# EAGLE library part BROOK_2X10_FEMALE (library milador)
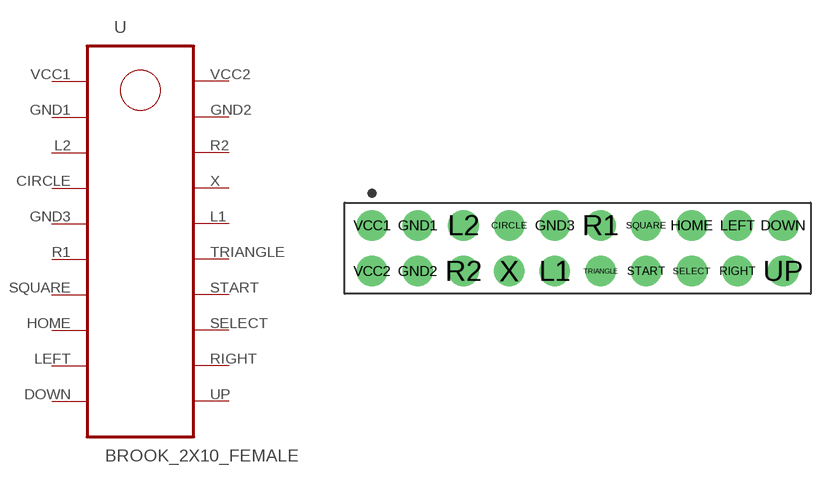
[diagram p4: symbol with the pads of CONN_2X10; footprint CONN_2X10]

Designator prefix -

## BROOK_2X10_FEMALE  [CONN_2X10]
CIRCLE  CIRCLE  pas
DOWN  DOWN  pas
GND1  GND1  pas
GND2  GND2  pas
GND3  GND3  pas
HOME  HOME  pas
L1  L1  pas
L2  L2  pas
LEFT  LEFT  pas
R1  R1  pas
R2  R2  pas
RIGHT  RIGHT  pas
SELECT  SELECT  pas
SQUARE  SQUARE  pas
START  START  pas
TRIANGLE  TRIANGLE  pas
UP  UP  pas
VCC1  VCC1  pas
VCC2  VCC2  pas
X  X  pas

## Footprint CONN_2X10 (pad centres in mm)
Double-row, 20-pin Receptacle Header (Female) Straight, 2.54 mm (0.10 in) row pitch, 2.54 mm (0.10 in) col pitch, 8.50 mm insulator length, 25.90 X 5.08 X 8.50 mm body Double-row (2X10), 20-pin Receptacle Header (Female) Straight package with 2.54 mm (0.10 in) row pitch, 2.54 mm (0.10 in) col pitch, 0.64 mm lead width, 3.00 mm tail length and 8.50 mm insulator length with overall size 25.90 X 5.08 X 8.50 mm, pin pattern - clockwise from top left
drill 1.105 pad 1.705: CIRCLE 7.62,0; DOWN 22.86,0; GND1 2.54,0; GND2 2.54,-2.54; GND3 10.16,0; HOME 17.78,0; L1 10.16,-2.54; L2 5.08,0; LEFT 20.32,0; R1 12.7,0; R2 5.08,-2.54; RIGHT 20.32,-2.54; SELECT 17.78,-2.54; SQUARE 15.24,0; START 15.24,-2.54; TRIANGLE 12.7,-2.54; UP 22.86,-2.54; VCC1 0,0; VCC2 0,-2.54; X 7.62,-2.54